# Altium footprint library WLS.PcbLib: 14 footprints
Each footprint in its own frame and in the unit in brackets; x right, y up, seen from the top. Pads: shape width x height; smd on the part's side, far side on the other; paste and mask are expansions set on the pad; w line width, h text height; cw(c..) or ccw(c..) is an arc to the next point about the centre after c.
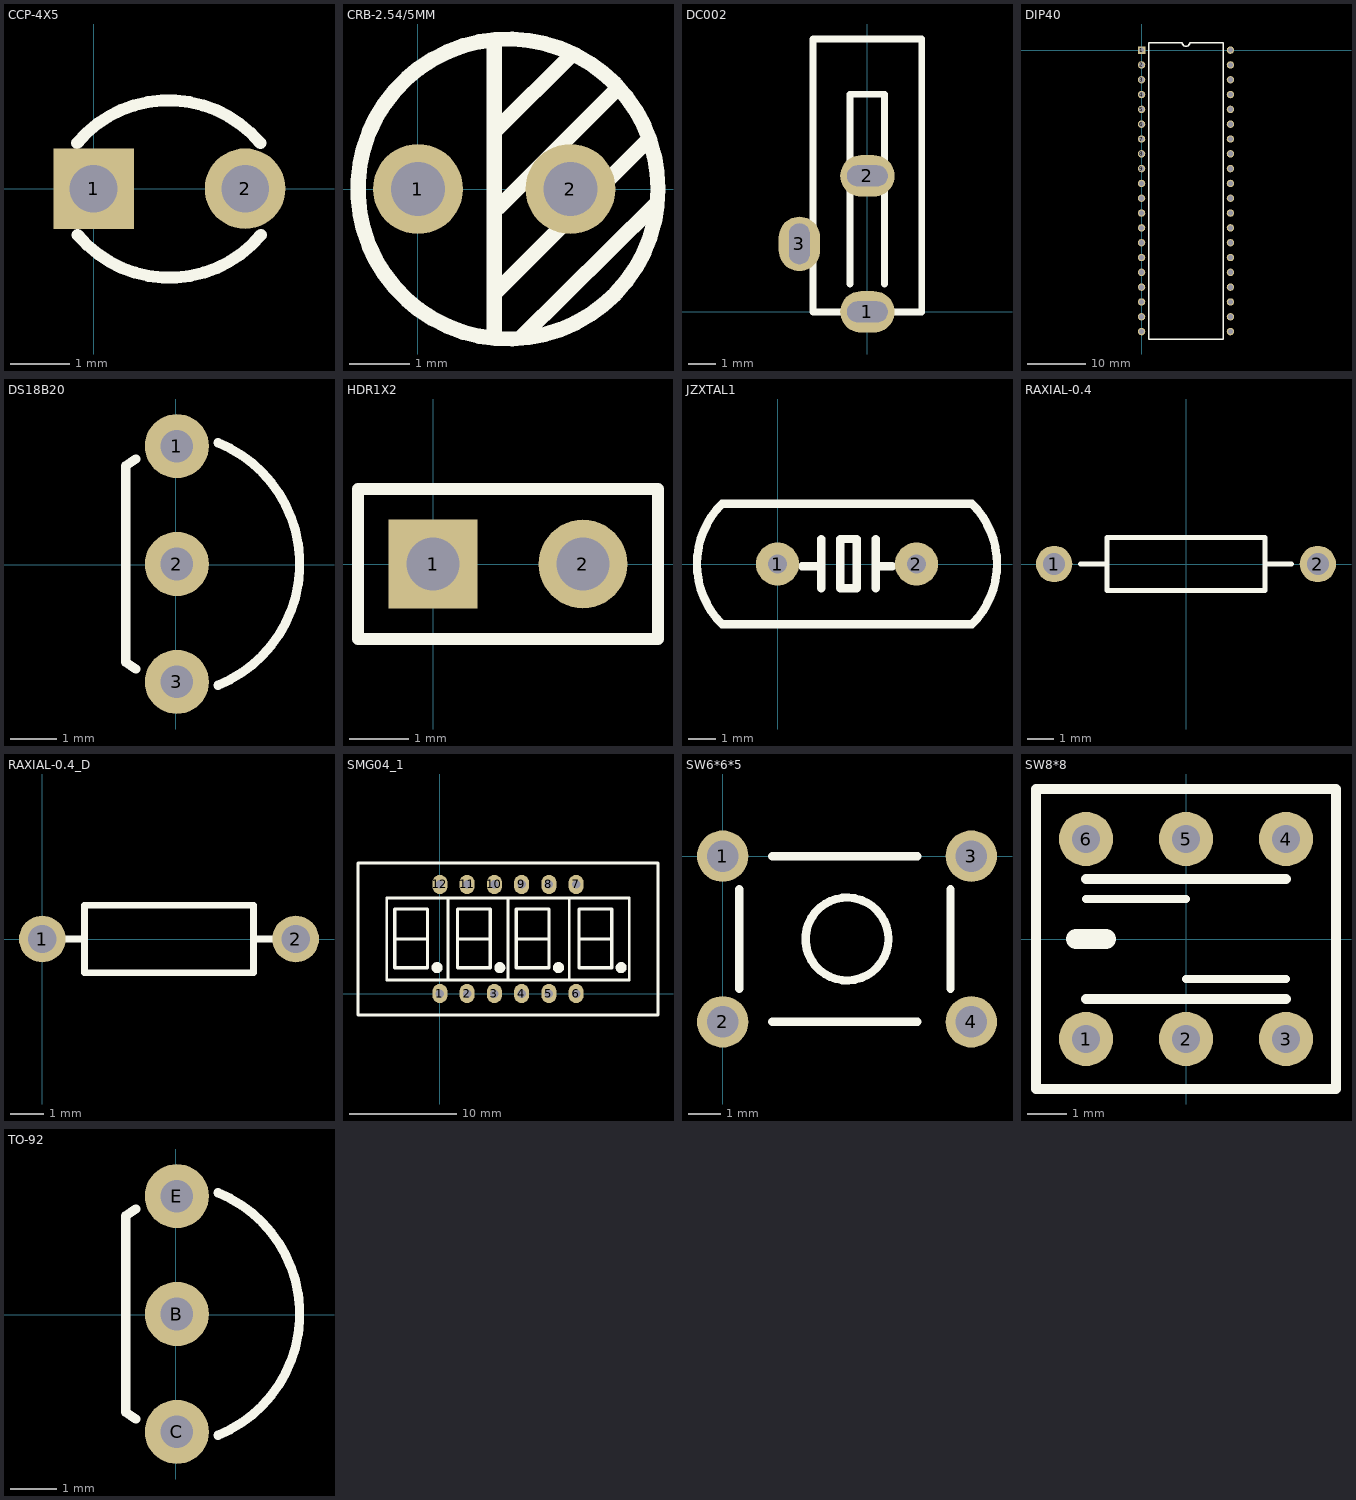
[diagram p0: the footprints below, top view; thin cyan lines are the x and y axes]

## CCP-4X5 [mm] "瓷片电容 - 直插"
height 12
pads (2):
  rect 1.35x1.35 hole 0.8: 1(0,0)
  round 1.35 hole 0.8: 2(2.54,0)
Top Overlay:
  lines w0.2: -0.279,0.762 cw(c1.258,-0.518) 2.794,0.762 ; -0.266,-0.772 ccw(c1.27,0.508) 2.806,-0.772

## CRB-2.54/5MM [mm] "电解电容10uf 脚间距2.54/mm外直径5mm"
pads (2):
  round 1.5 hole 0.9: 1(0,0) 2(2.54,0)
Top Overlay:
  circle w0.254: c1.5,0 r2.5
  lines w0.254: 1.27,-2.413 1.27,2.413 ; 1.303,0.983 2.573,2.253 ; 1.32,-1.701 3.86,0.839 ; 1.333,-0.317 3.302,1.651 ; 1.715,-2.477 3.951,-0.269

## DC002 [mil] "电源插座 - 1.3mm*3.5mm,插头内径1.3外径3.5"
height 433.07
pads (3):
  oval 78.74x60 hole 30 slot 59.06 at 0 deg: 1(0,0) 2(0,196.85)
  oval 60x78.74 hole 30 slot 59.06 at 90 deg: 3(-98.43,98.43)
Top Overlay:
  lines w10: -25,40 -25,315 25,315 25,40 ; -78.74,0 -78.74,395 78.74,395 78.74,0 0,0 -78.74,0

## DIP40 [mm] "IC座 - 40P"
pads (40):
  rect 1.27x1.27 hole 0.9: 1(0,0)
  round 1.27 hole 0.9: 2(0,-2.54) 3(0,-5.08) 4(0,-7.62) 5(0,-10.16) 6(0,-12.7) 7(0,-15.24) 8(0,-17.78) 9(0,-20.32) 10(0,-22.86) 11(0,-25.4) 12(0,-27.94) 13(0,-30.48) 14(0,-33.02) 15(0,-35.56) 16(0,-38.1) 17(0,-40.64) 18(0,-43.18) 19(0,-45.72) 20(0,-48.26) 21(15.24,-48.26) 22(15.24,-45.72) 23(15.24,-43.18) 24(15.24,-40.64) 25(15.24,-38.1) 26(15.24,-35.56) 27(15.24,-33.02) 28(15.24,-30.48) 29(15.24,-27.94) 30(15.24,-25.4) 31(15.24,-22.86) 32(15.24,-20.32) 33(15.24,-17.78) 34(15.24,-15.24) 35(15.24,-12.7) 36(15.24,-10.16) 37(15.24,-7.62) 38(15.24,-5.08) 39(15.24,-2.54) 40(15.24,0)
Top Overlay:
  lines w0.254: 1.27,-49.53 1.27,1.27 6.985,1.27 ccw(c7.62,1.27) 8.255,1.27 13.97,1.27 13.97,-49.53 1.27,-49.53

## DS18B20 [mm] "18B20温度管"
pads (3):
  round 1.38 hole 0.7: 1(0.025,2.553) 2(0.025,0.013) 3(0.025,-2.527)
Top Overlay:
  lines w0.2: -0.856,-2.25 -1.075,-2.104 -1.075,2.129 -0.856,2.275 ; 0.911,-2.597 ccw(c-0.144,0.013) 0.911,2.623

## HDR1X2 [mm] "Connector; Header; 2 Position"
pads (2):
  rect 1.5x1.5 hole 0.9: 1(0,0)
  round 1.5 hole 0.9: 2(2.54,0)
Top Overlay:
  lines w0.2: -1.27,-1.27 3.81,-1.27 3.81,1.27 -1.27,1.27 -1.27,-1.27

## JZXTAL1 [mil] "直插晶振"
pads (2):
  round 62 hole 28: 1(0,0) 2(200,0)
Top Overlay:
  lines w12: 35.21,-3.45 54.89,-3.45 ; 62.76,-34.95 62.76,35.92 ; 141.5,-34.95 141.51,35.92 ; 145.44,-3.45 165.13,-3.45 ; -80,-86.61 cw(c6.61,0) -80,86.61 280,86.61 cw(c193.39,0) 280,-86.61 -80,-86.61 ; 90.32,-34.95 113.95,-34.95 113.95,35.92 90.32,35.92 90.32,-34.95

## PCBComponent_1 [mil]

## RAXIAL-0.4 [mm] "色环电阻 - 2/1W"
height 2.032
pads (2):
  round 1.4 hole 0.85: 1(-5.08,0) 2(5.08,0)
Top Overlay:
  lines w0.2: -4.064,0 -3.048,0 ; 3.048,0 4.064,0 ; -3.048,-1.016 3.048,-1.016 3.048,1.016 -3.048,1.016 -3.048,-1.016

## RAXIAL-0.4_D [mm] "色环电阻 短封装 2/1W"
height 2.032
pads (2):
  round 1.4 hole 0.85: 1(0,0) 2(7.62,0)
Top Overlay:
  lines w0.2: 0,0 1.27,0 ; 6.35,0 7.62,0 ; 1.27,-1.016 6.35,-1.016 6.35,1.016 1.27,1.016 1.27,-1.016

## SMG04_1 [mm] "3.6寸 共阳四位数码管"
height 1.2
pads (12):
  oval 1.4x1.8 hole 0.8: 1(0,0) 2(2.54,0) 3(5.08,0) 4(7.62,0) 5(10.16,0) 6(12.7,0) 7(12.7,10.16) 8(10.16,10.16) 9(7.62,10.16) 10(5.08,10.16) 11(2.54,10.16) 12(0,10.16)
Top Overlay:
  circle w0.508: c11.049,2.413 r0.254
  circle w0.508: c16.891,2.413 r0.254
  circle w0.508: c5.588,2.413 r0.254
  circle w0.508: c-0.254,2.413 r0.254
  lines w0.254: -0.635,-2 12.605,-2 20.32,-2 20.32,8.128 ; 0,-2 -2.508,-2 -2.5,-1.992 -7.62,-1.992 -7.62,12.16 0,12.16 20.32,12.16 20.32,7.66 ; 0.127,1.27 6.35,1.27 ; 0.762,8.763 0.762,1.27 -4.953,1.27 -4.953,8.89 6.35,8.89 ; 11.43,1.27 17.653,1.27 17.653,8.89 6.35,8.89 ; 12.065,8.763 12.065,1.27 6.35,1.27 ; 6.35,1.27 6.35,8.89 ; 6.35,1.27 6.35,8.89
  lines w0.305: -4.191,5.08 -1.143,5.08 ; 1.651,5.08 4.699,5.08 ; 7.112,5.08 10.16,5.08 ; 12.954,5.08 16.002,5.08 ; -4.191,2.413 -4.191,7.874 -1.143,7.874 -1.143,2.413 -4.191,2.413 ; 1.651,2.413 4.699,2.413 4.699,7.874 1.651,7.874 1.651,2.413 ; 7.112,2.413 10.16,2.413 10.16,7.874 7.112,7.874 7.112,2.413 ; 12.954,2.413 12.954,7.874 16.002,7.874 16.002,2.413 12.954,2.413

## SW6*6*5 [mil] "按键6X6X5MM"
height 47.24
pads (4):
  round 62 hole 38: 1(0,0) 2(0,-200) 3(300,0) 4(300,-200)
Top Overlay:
  circle w10: c150,-100 r50
  lines w10: 19.97,-160 19.97,-40 ; 59.97,-200 235,-200 ; 59.97,0 235,0 ; 275,-160 275,-40

## SW8*8 [mm] "8*8mm自锁按键"
height 7
pads (6):
  round 1.38 hole 0.7: 1(-2.54,-2.54) 2(0,-2.54) 3(2.54,-2.54) 4(2.54,2.54) 5(0,2.54) 6(-2.54,2.54)
Top Overlay:
  lines w0.203: -2.54,1.016 0,1.016 ; 0,-1.016 2.54,-1.016
  lines w0.254: -2.54,-1.524 2.54,-1.524 ; -2.54,1.524 -1.27,1.524 1.27,1.524 2.54,1.524 ; -3.81,-3.81 -3.81,3.81 3.81,3.81 3.81,-3.81 -3.81,-3.81
  lines w0.508: -2.794,0 -2.032,0

## TO-92 [mm] "直插三极管S9012,S8050"
height 7
pads (3):
  round 1.38 hole 0.7: B(0.025,0.013) C(0.025,-2.527) E(0.025,2.553)
Top Overlay:
  lines w0.2: -0.856,-2.25 -1.075,-2.104 -1.075,2.129 -0.856,2.275 ; 0.911,-2.597 ccw(c-0.144,0.013) 0.911,2.623